# Altium schematic symbol library MCU.SchLib: 10 symbols
Pins are listed as number, name and electrical type; pins without a type are passive.

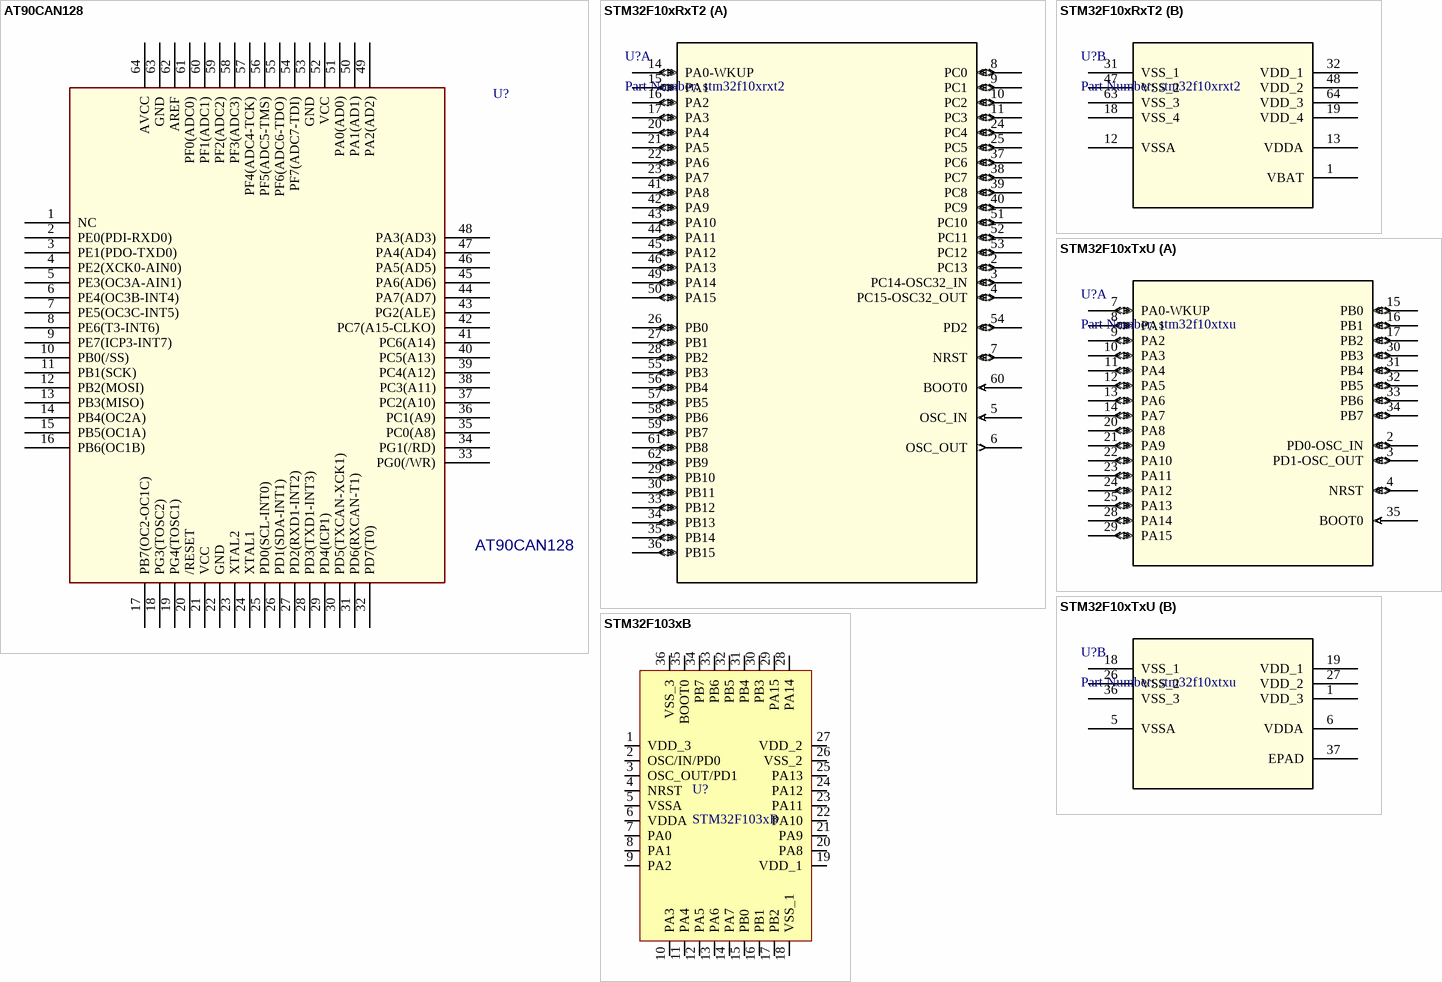
[diagram p0: symbols AT90CAN128 to STM32F103xB]

## AT90CAN128
designator U?
footprint 64A_L (64-Pin Thin Quad Flat Pack 0.8 mm Pitch, IPC High Density)
pins: 1 NC, 2 PE0(PDI-RXD0), 3 PE1(PDO-TXD0), 4 PE2(XCK0-AIN0), 5 PE3(OC3A-AIN1), 6 PE4(OC3B-INT4), 7 PE5(OC3C-INT5), 8 PE6(T3-INT6), 9 PE7(ICP3-INT7), 10 PB0(/SS), 11 PB1(SCK), 12 PB2(MOSI), 13 PB3(MISO), 14 PB4(OC2A), 15 PB5(OC1A), 16 PB6(OC1B), 17 PB7(OC2-OC1C), 18 PG3(TOSC2), 19 PG4(TOSC1), 20 /RESET, 21 VCC, 22 GND, 23 XTAL2, 24 XTAL1, 25 PD0(SCL-INT0), 26 PD1(SDA-INT1), 27 PD2(RXD1-INT2), 28 PD3(TXD1-INT3), 29 PD4(ICP1), 30 PD5(TXCAN-XCK1), 31 PD6(RXCAN-T1), 32 PD7(T0), 33 PG0(/WR), 34 PG1(/RD), 35 PC0(A8), 36 PC1(A9), 37 PC2(A10), 38 PC3(A11), 39 PC4(A12), 40 PC5(A13), 41 PC6(A14), 42 PC7(A15-CLKO), 43 PG2(ALE), 44 PA7(AD7), 45 PA6(AD6), 46 PA5(AD5), 47 PA4(AD4), 48 PA3(AD3), 49 PA2(AD2), 50 PA1(AD1), 51 PA0(AD0), 52 VCC, 53 GND, 54 PF7(ADC7-TDI), 55 PF6(ADC6-TDO), 56 PF5(ADC5-TMS), 57 PF4(ADC4-TCK), 58 PF3(ADC3), 59 PF2(ADC2), 60 PF1(ADC1), 61 PF0(ADC0), 62 AREF, 63 GND, 64 AVCC

## STM32F10xRxT2
designator U?, comment Part Number: stm32f10xrxt2
No Description Available; Vendor: STMicroelectronics; Manufacturer_Part_Number: stm32f10xrxt2; Copyright: Copyright (C) 2016 Accelerated Designs. All rights reserved; RefDes: RefDes; Type: DEV; Value: Value
footprint LQFP64-10x10mm (Pitch 0.50mm)
part A pins: 2 PC13 (io), 3 PC14-OSC32_IN (io), 4 PC15-OSC32_OUT (io), 5 OSC_IN (in), 6 OSC_OUT (out), 7 NRST (io), 8 PC0 (io), 9 PC1 (io), 10 PC2 (io), 11 PC3 (io), 14 PA0-WKUP (io), 15 PA1 (io), 16 PA2 (io), 17 PA3 (io), 20 PA4 (io), 21 PA5 (io), 22 PA6 (io), 23 PA7 (io), 24 PC4 (io), 25 PC5 (io), 26 PB0 (io), 27 PB1 (io), 28 PB2 (io), 29 PB10 (io), 30 PB11 (io), 33 PB12 (io), 34 PB13 (io), 35 PB14 (io), 36 PB15 (io), 37 PC6 (io), 38 PC7 (io), 39 PC8 (io), 40 PC9 (io), 41 PA8 (io), 42 PA9 (io), 43 PA10 (io), 44 PA11 (io), 45 PA12 (io), 46 PA13 (io), 49 PA14 (io), 50 PA15 (io), 51 PC10 (io), 52 PC11 (io), 53 PC12 (io), 54 PD2 (io), 55 PB3 (io), 56 PB4 (io), 57 PB5 (io), 58 PB6 (io), 59 PB7 (io), 60 BOOT0 (in), 61 PB8 (io), 62 PB9 (io)
part B pins: 1 VBAT (power), 12 VSSA (power), 13 VDDA (power), 18 VSS_4 (power), 19 VDD_4 (power), 31 VSS_1 (power), 32 VDD_1 (power), 47 VSS_2 (power), 48 VDD_2 (power), 63 VSS_3 (power), 64 VDD_3 (power)

## STM32F10xTxU
designator U?, comment Part Number: stm32f10xtxu
No Description Available; Vendor: STMicroelectronics; Manufacturer_Part_Number: stm32f10xtxu; Copyright: Copyright (C) 2016 Accelerated Designs. All rights reserved; RefDes: RefDes; Type: DEV; Value: Value
footprint QFN50P600X600X100_HS-37N - REV2 (QFN, 36-Leads, Body 6.00x6.00mm, Pitch 0.50mm, Thermal Pad 2.05x2.05mm, IPC Medium Density)
part A pins: 2 PD0-OSC_IN (io), 3 PD1-OSC_OUT (io), 4 NRST (io), 7 PA0-WKUP (io), 8 PA1 (io), 9 PA2 (io), 10 PA3 (io), 11 PA4 (io), 12 PA5 (io), 13 PA6 (io), 14 PA7 (io), 15 PB0 (io), 16 PB1 (io), 17 PB2 (io), 20 PA8 (io), 21 PA9 (io), 22 PA10 (io), 23 PA11 (io), 24 PA12 (io), 25 PA13 (io), 28 PA14 (io), 29 PA15 (io), 30 PB3 (io), 31 PB4 (io), 32 PB5 (io), 33 PB6 (io), 34 PB7 (io), 35 BOOT0 (in)
part B pins: 1 VDD_3 (power), 5 VSSA (power), 6 VDDA (power), 18 VSS_1 (power), 19 VDD_1 (power), 26 VSS_2 (power), 27 VDD_2 (power), 36 VSS_3 (power), 37 EPAD

## STM32F103xB
designator U?
footprint QFN50P600X600X100_HS-37N - REV1 (QFN, 36-Leads, Body 6.00x6.00mm, Pitch 0.50mm, Thermal Pad 2.05x2.05mm, IPC Medium Density)
pins: 1 VDD_3, 2 OSC/IN/PD0, 3 OSC_OUT/PD1, 4 NRST, 5 VSSA, 6 VDDA, 7 PA0, 8 PA1, 9 PA2, 10 PA3, 11 PA4, 12 PA5, 13 PA6, 14 PA7, 15 PB0, 16 PB1, 17 PB2, 18 VSS_1, 19 VDD_1, 20 PA8, 21 PA9, 22 PA10, 23 PA11, 24 PA12, 25 PA13, 26 VSS_2, 27 VDD_2, 28 PA14, 29 PA15, 30 PB3, 31 PB4, 32 PB5, 33 PB6, 34 PB7, 35 BOOT0, 36 VSS_3, 37 PAD hidden to GND

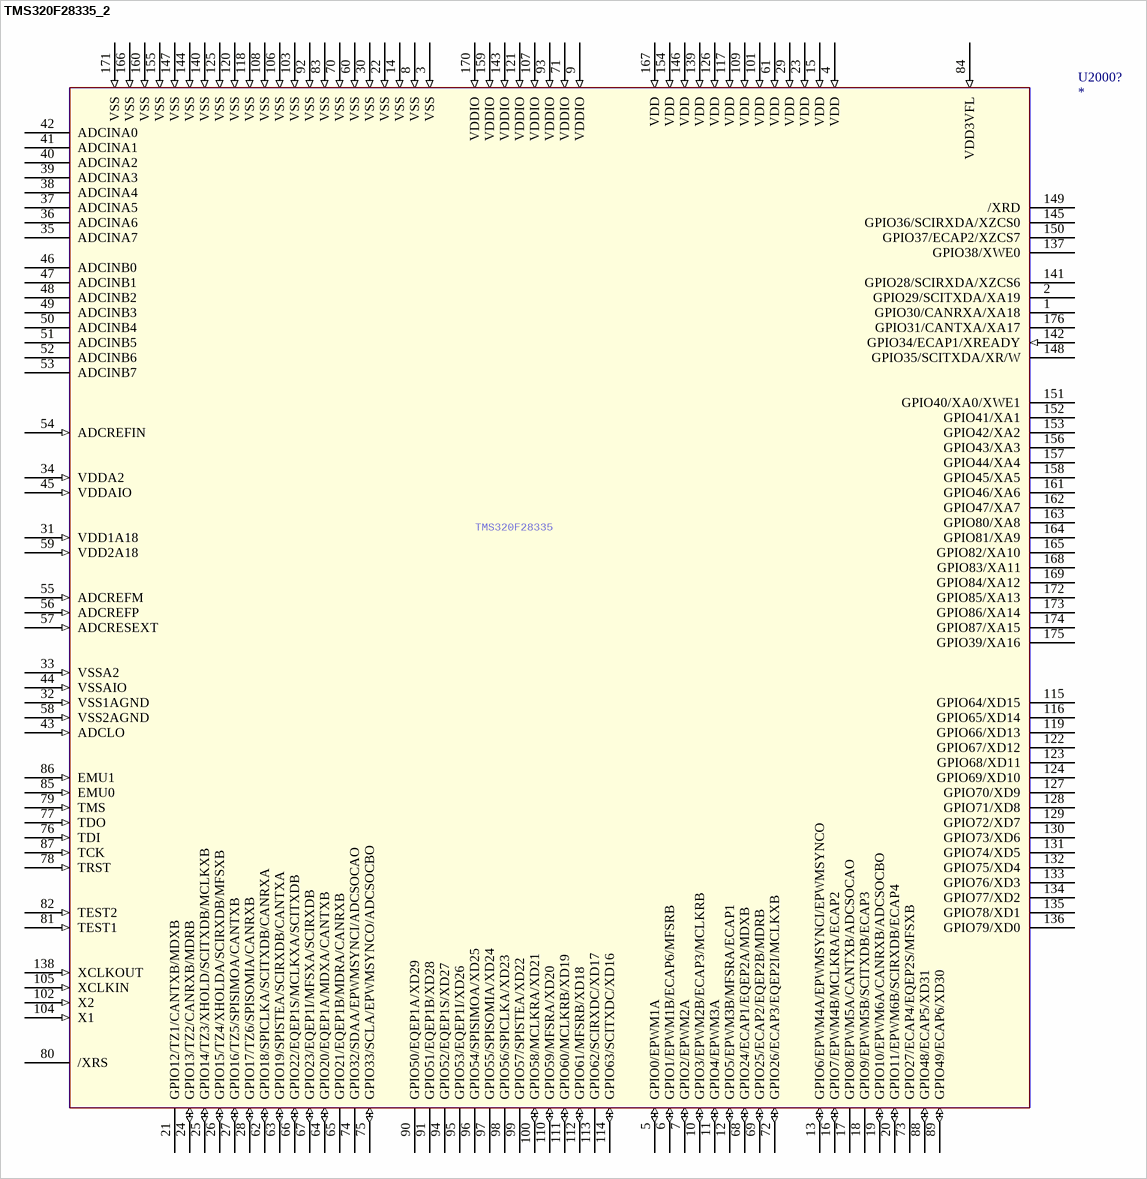
[diagram p1: symbol TMS320F28335_2]

## TMS320F28335_2
designator U2000?
OriginalSymbolOrigin: (0,0)
pins: 1 GPIO30/CANRXA/XA18, 2 GPIO29/SCITXDA/XA19, 3 VSS (in), 4 VDD (in), 5 GPIO0/EPWM1A (io), 6 GPIO1/EPWM1B/ECAP6/MFSRB (io), 7 GPIO2/EPWM2A (io), 8 VSS (in), 9 VDDIO (in), 10 GPIO3/EPWM2B/ECAP3/MCLKRB (io), 11 GPIO4/EPWM3A (io), 12 GPIO5/EPWM3B/MFSRA/ECAP1 (io), 13 GPIO6/EPWM4A/EPWMSYNCI/EPWMSYNCO (io), 14 VSS (in), 15 VDD (in), 16 GPIO7/EPWM4B/MCLKRA/ECAP2 (io), 17 GPIO8/EPWM5A/CANTXB/ADCSOCAO, 18 GPIO9/EPWM5B/SCITXDB/ECAP3, 19 GPIO10/EPWM6A/CANRXB/ADCSOCBO (io), 20 GPIO11/EPWM6B/SCIRXDB/ECAP4 (io), 21 GPIO12/TZ1/CANTXB/MDXB, 22 VSS (in), 23 VDD (in), 24 GPIO13/TZ2/CANRXB/MDRB (io), 25 GPIO14/TZ3/XHOLD/SCITXDB/MCLKXB (io), 26 GPIO15/TZ4/XHOLDA/SCIRXDB/MFSXB (io), 27 GPIO16/TZ5/SPISIMOA/CANTXB (io), 28 GPIO17/TZ6/SPISOMIA/CANRXB (io), 29 VDD (in), 30 VSS (in), 31 VDD1A18 (in), 32 VSS1AGND (in), 33 VSSA2 (in), 34 VDDA2 (in), 35 ADCINA7, 36 ADCINA6, 37 ADCINA5, 38 ADCINA4, 39 ADCINA3, 40 ADCINA2, 41 ADCINA1, 42 ADCINA0, 43 ADCLO (in), 44 VSSAIO (in), 45 VDDAIO (in), 46 ADCINB0, 47 ADCINB1, 48 ADCINB2, 49 ADCINB3, 50 ADCINB4, 51 ADCINB5, 52 ADCINB6, 53 ADCINB7, 54 ADCREFIN (in), 55 ADCREFM (in), 56 ADCREFP (in), 57 ADCRESEXT (in), 58 VSS2AGND (in), 59 VDD2A18 (in), 60 VSS (in), 61 VDD (in), 62 GPIO18/SPICLKA/SCITXDB/CANRXA (io), 63 GPIO19/SPISTEA/SCIRXDB/CANTXA (io), 64 GPIO20/EQEP1A/MDXA/CANTXB (io), 65 GPIO21/EQEP1B/MDRA/CANRXB, 66 GPIO22/EQEP1S/MCLKXA/SCITXDB (io), 67 GPIO23/EQEP1I/MFSXA/SCIRXDB (io), 68 GPIO24/ECAP1/EQEP2A/MDXB (io), 69 GPIO25/ECAP2/EQEP2B/MDRB (io), 70 VSS (in), 71 VDDIO (in), 72 GPIO26/ECAP3/EQEP2I/MCLKXB (io), 73 GPIO27/ECAP4/EQEP2S/MFSXB, 74 GPIO32/SDAA/EPWMSYNCI/ADCSOCAO, 75 GPIO33/SCLA/EPWMSYNCO/ADCSOCBO (io), 76 TDI (in), 77 TDO (in), 78 TRST (in), 79 TMS (in), 80 /XRS, 81 TEST1 (in), 82 TEST2 (in), 83 VSS (in), 84 VDD3VFL (in), 85 EMU0 (in), 86 EMU1 (in), 87 TCK (in), 88 GPIO48/ECAP5/XD31 (io), 89 GPIO49/ECAP6/XD30 (io), 90 GPIO50/EQEP1A/XD29, 91 GPIO51/EQEP1B/XD28, 92 VSS (in), 93 VDDIO (in), 94 GPIO52/EQEP1S/XD27, 95 GPIO53/EQEP1I/XD26, 96 GPIO54/SPISIMOA/XD25, 97 GPIO55/SPISOMIA/XD24, 98 GPIO56/SPICLKA/XD23, 99 GPIO57/SPISTEA/XD22, 100 GPIO58/MCLKRA/XD21 (io), 101 VDD (in), 102 X2 (in), 103 VSS (in), 104 X1 (in), 105 XCLKIN (in), 106 VSS (in), 107 VDDIO (in), 108 VSS (in), 109 VDD (in), 110 GPIO59/MFSRA/XD20 (io), 111 GPIO60/MCLKRB/XD19 (io), 112 GPIO61/MFSRB/XD18 (io), 113 GPIO62/SCIRXDC/XD17, 114 GPIO63/SCITXDC/XD16 (io), 115 GPIO64/XD15, 116 GPIO65/XD14, 117 VDD (in), 118 VSS (in), 119 GPIO66/XD13, 120 VSS (in), 121 VDDIO (in), 122 GPIO67/XD12, 123 GPIO68/XD11, 124 GPIO69/XD10, 125 VSS (in), 126 VDD (in), 127 GPIO70/XD9, 128 GPIO71/XD8, 129 GPIO72/XD7, 130 GPIO73/XD6, 131 GPIO74/XD5, 132 GPIO75/XD4, 133 GPIO76/XD3, 134 GPIO77/XD2, 135 GPIO78/XD1, 136 GPIO79/XD0, 137 GPIO38/XWE0, 138 XCLKOUT (in), 139 VDD (in), 140 VSS (in), 141 GPIO28/SCIRXDA/XZCS6, 142 GPIO34/ECAP1/XREADY (in), 143 VDDIO (in), 144 VSS (in), 145 GPIO36/SCIRXDA/XZCS0, 146 VDD (in), 147 VSS (in), 148 GPIO35/SCITXDA/XR/W, 149 /XRD, 150 GPIO37/ECAP2/XZCS7, 151 GPIO40/XA0/XWE1, 152 GPIO41/XA1, 153 GPIO42/XA2, 154 VDD (in), 155 VSS (in), 156 GPIO43/XA3, 157 GPIO44/XA4, 158 GPIO45/XA5, 159 VDDIO (in), 160 VSS (in), 161 GPIO46/XA6, 162 GPIO47/XA7, 163 GPIO80/XA8, 164 GPIO81/XA9, 165 GPIO82/XA10, 166 VSS (in), 167 VDD (in), 168 GPIO83/XA11, 169 GPIO84/XA12, 170 VDDIO (in), 171 VSS (in), 172 GPIO85/XA13, 173 GPIO86/XA14, 174 GPIO87/XA15, 175 GPIO39/XA16, 176 GPIO31/CANTXA/XA17
text: TMS320F28335

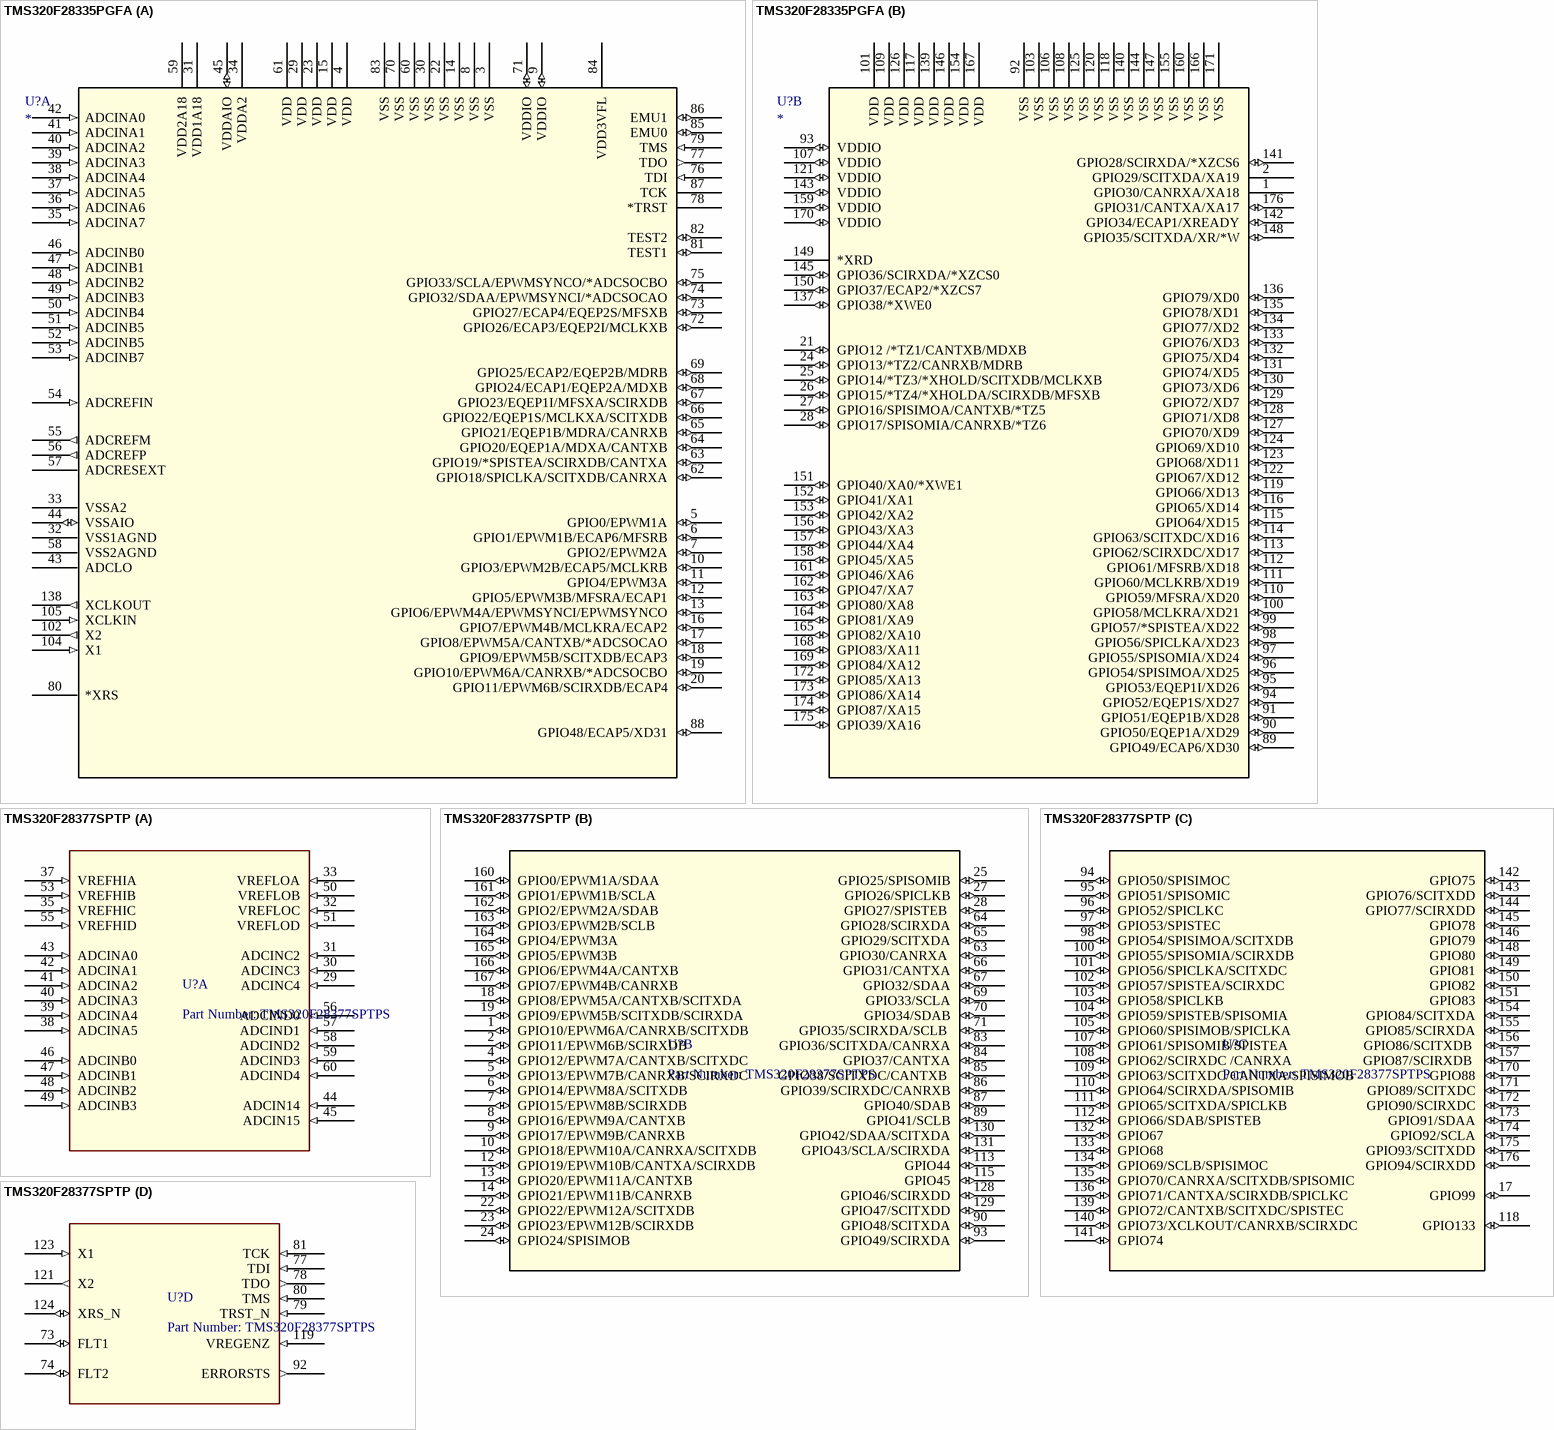
[diagram p2: symbols TMS320F28335PGFA to TMS320F28377SPTP]

## TMS320F28335PGFA
designator U?
Imported; Manufacturer_Part_Number: TMS320F28335PGFA; Vendor: Texas Instruments; Section: Microcontroller and Processor; C: Copyright (C) 2015 Accelerated Designs. All rights reserved; Family: Microcontroller; Manufacturer_Name: Texas Instruments; Copyright: Copyright (C) 2015 Accelerated Designs. All rights reserved; RS_Part_Number: 6606654; Value: Value; Type: Type; RefDes: RefDes
footprint PGF176
part A pins: 3 VSS (power), 4 VDD (power), 5 GPIO0/EPWM1A (io), 6 GPIO1/EPWM1B/ECAP6/MFSRB (io), 7 GPIO2/EPWM2A (io), 8 VSS (power), 9 VDDIO (io), 10 GPIO3/EPWM2B/ECAP5/MCLKRB (io), 11 GPIO4/EPWM3A (io), 12 GPIO5/EPWM3B/MFSRA/ECAP1 (io), 13 GPIO6/EPWM4A/EPWMSYNCI/EPWMSYNCO (io), 14 VSS (power), 15 VDD (power), 16 GPIO7/EPWM4B/MCLKRA/ECAP2 (io), 17 GPIO8/EPWM5A/CANTXB/*ADCSOCAO (io), 18 GPIO9/EPWM5B/SCITXDB/ECAP3 (io), 19 GPIO10/EPWM6A/CANRXB/*ADCSOCBO (io), 20 GPIO11/EPWM6B/SCIRXDB/ECAP4 (io), 22 VSS (power), 23 VDD (power), 29 VDD (power), 30 VSS (power), 31 VDD1A18 (power), 32 VSS1AGND (power), 33 VSSA2 (power), 34 VDDA2 (power), 35 ADCINA7 (in), 36 ADCINA6 (in), 37 ADCINA5 (in), 38 ADCINA4 (in), 39 ADCINA3 (in), 40 ADCINA2 (in), 41 ADCINA1 (in), 42 ADCINA0 (in), 43 ADCLO, 44 VSSAIO (io), 45 VDDAIO (io), 46 ADCINB0 (in), 47 ADCINB1 (in), 48 ADCINB2 (in), 49 ADCINB3 (in), 50 ADCINB4 (in), 51 ADCINB5 (in), 52 ADCINB5 (in), 53 ADCINB7 (in), 54 ADCREFIN (in), 55 ADCREFM (out), 56 ADCREFP (out), 57 ADCRESEXT, 58 VSS2AGND (power), 59 VDD2A18 (power), 60 VSS (power), 61 VDD (power), 62 GPIO18/SPICLKA/SCITXDB/CANRXA (io), 63 GPIO19/*SPISTEA/SCIRXDB/CANTXA (io), 64 GPIO20/EQEP1A/MDXA/CANTXB (io), 65 GPIO21/EQEP1B/MDRA/CANRXB (io), 66 GPIO22/EQEP1S/MCLKXA/SCITXDB (io), 67 GPIO23/EQEP1I/MFSXA/SCIRXDB (io), 68 GPIO24/ECAP1/EQEP2A/MDXB (io), 69 GPIO25/ECAP2/EQEP2B/MDRB (io), 70 VSS (power), 71 VDDIO (io), 72 GPIO26/ECAP3/EQEP2I/MCLKXB (io), 73 GPIO27/ECAP4/EQEP2S/MFSXB (io), 74 GPIO32/SDAA/EPWMSYNCI/*ADCSOCAO (io), 75 GPIO33/SCLA/EPWMSYNCO/*ADCSOCBO (io), 76 TDI (in), 77 TDO (out), 78 *TRST, 79 TMS (in), 80 *XRS, 81 TEST1 (io), 82 TEST2 (io), 83 VSS (power), 84 VDD3VFL (power), 85 EMU0 (io), 86 EMU1 (io), 87 TCK, 88 GPIO48/ECAP5/XD31 (io), 102 X2 (out), 104 X1 (in), 105 XCLKIN (in), 138 XCLKOUT (out)
part B pins: 1 GPIO30/CANRXA/XA18, 2 GPIO29/SCITXDA/XA19, 21 GPIO12 /*TZ1/CANTXB/MDXB (io), 24 GPIO13/*TZ2/CANRXB/MDRB (io), 25 GPIO14/*TZ3/*XHOLD/SCITXDB/MCLKXB (io), 26 GPIO15/*TZ4/*XHOLDA/SCIRXDB/MFSXB (io), 27 GPIO16/SPISIMOA/CANTXB/*TZ5 (io), 28 GPIO17/SPISOMIA/CANRXB/*TZ6 (io), 89 GPIO49/ECAP6/XD30 (io), 90 GPIO50/EQEP1A/XD29 (io), 91 GPIO51/EQEP1B/XD28 (io), 92 VSS (power), 93 VDDIO (io), 94 GPIO52/EQEP1S/XD27 (io), 95 GPIO53/EQEP1I/XD26 (io), 96 GPIO54/SPISIMOA/XD25 (io), 97 GPIO55/SPISOMIA/XD24 (io), 98 GPIO56/SPICLKA/XD23 (io), 99 GPIO57/*SPISTEA/XD22 (io), 100 GPIO58/MCLKRA/XD21 (io), 101 VDD (power), 103 VSS (power), 106 VSS (power), 107 VDDIO (io), 108 VSS (power), 109 VDD (power), 110 GPIO59/MFSRA/XD20 (io), 111 GPIO60/MCLKRB/XD19 (io), 112 GPIO61/MFSRB/XD18 (io), 113 GPIO62/SCIRXDC/XD17 (io), 114 GPIO63/SCITXDC/XD16 (io), 115 GPIO64/XD15 (io), 116 GPIO65/XD14 (io), 117 VDD (power), 118 VSS (power), 119 GPIO66/XD13 (io), 120 VSS (power), 121 VDDIO (io), 122 GPIO67/XD12 (io), 123 GPIO68/XD11 (io), 124 GPIO69/XD10 (io), 125 VSS (power), 126 VDD (power), 127 GPIO70/XD9 (io), 128 GPIO71/XD8 (io), 129 GPIO72/XD7 (io), 130 GPIO73/XD6 (io), 131 GPIO74/XD5 (io), 132 GPIO75/XD4 (io), 133 GPIO76/XD3 (io), 134 GPIO77/XD2 (io), 135 GPIO78/XD1 (io), 136 GPIO79/XD0 (io), 137 GPIO38/*XWE0 (io), 139 VDD (power), 140 VSS (power), 141 GPIO28/SCIRXDA/*XZCS6 (io), 142 GPIO34/ECAP1/XREADY (io), 143 VDDIO (io), 144 VSS (power), 145 GPIO36/SCIRXDA/*XZCS0 (io), 146 VDD (power), 147 VSS (power), 148 GPIO35/SCITXDA/XR/*W (io), 149 *XRD, 150 GPIO37/ECAP2/*XZCS7 (io), 151 GPIO40/XA0/*XWE1 (io), 152 GPIO41/XA1 (io), 153 GPIO42/XA2 (io), 154 VDD (power), 155 VSS (power), 156 GPIO43/XA3 (io), 157 GPIO44/XA4 (io), 158 GPIO45/XA5 (io), 159 VDDIO (io), 160 VSS (power), 161 GPIO46/XA6 (io), 162 GPIO47/XA7 (io), 163 GPIO80/XA8 (io), 164 GPIO81/XA9 (io), 165 GPIO82/XA10 (io), 166 VSS (power), 167 VDD (power), 168 GPIO83/XA11 (io), 169 GPIO84/XA12 (io), 170 VDDIO (io), 171 VSS (power), 172 GPIO85/XA13 (io), 173 GPIO86/XA14 (io), 174 GPIO87/XA15 (io), 175 GPIO39/XA16 (io), 176 GPIO31/CANTXA/XA17 (io)

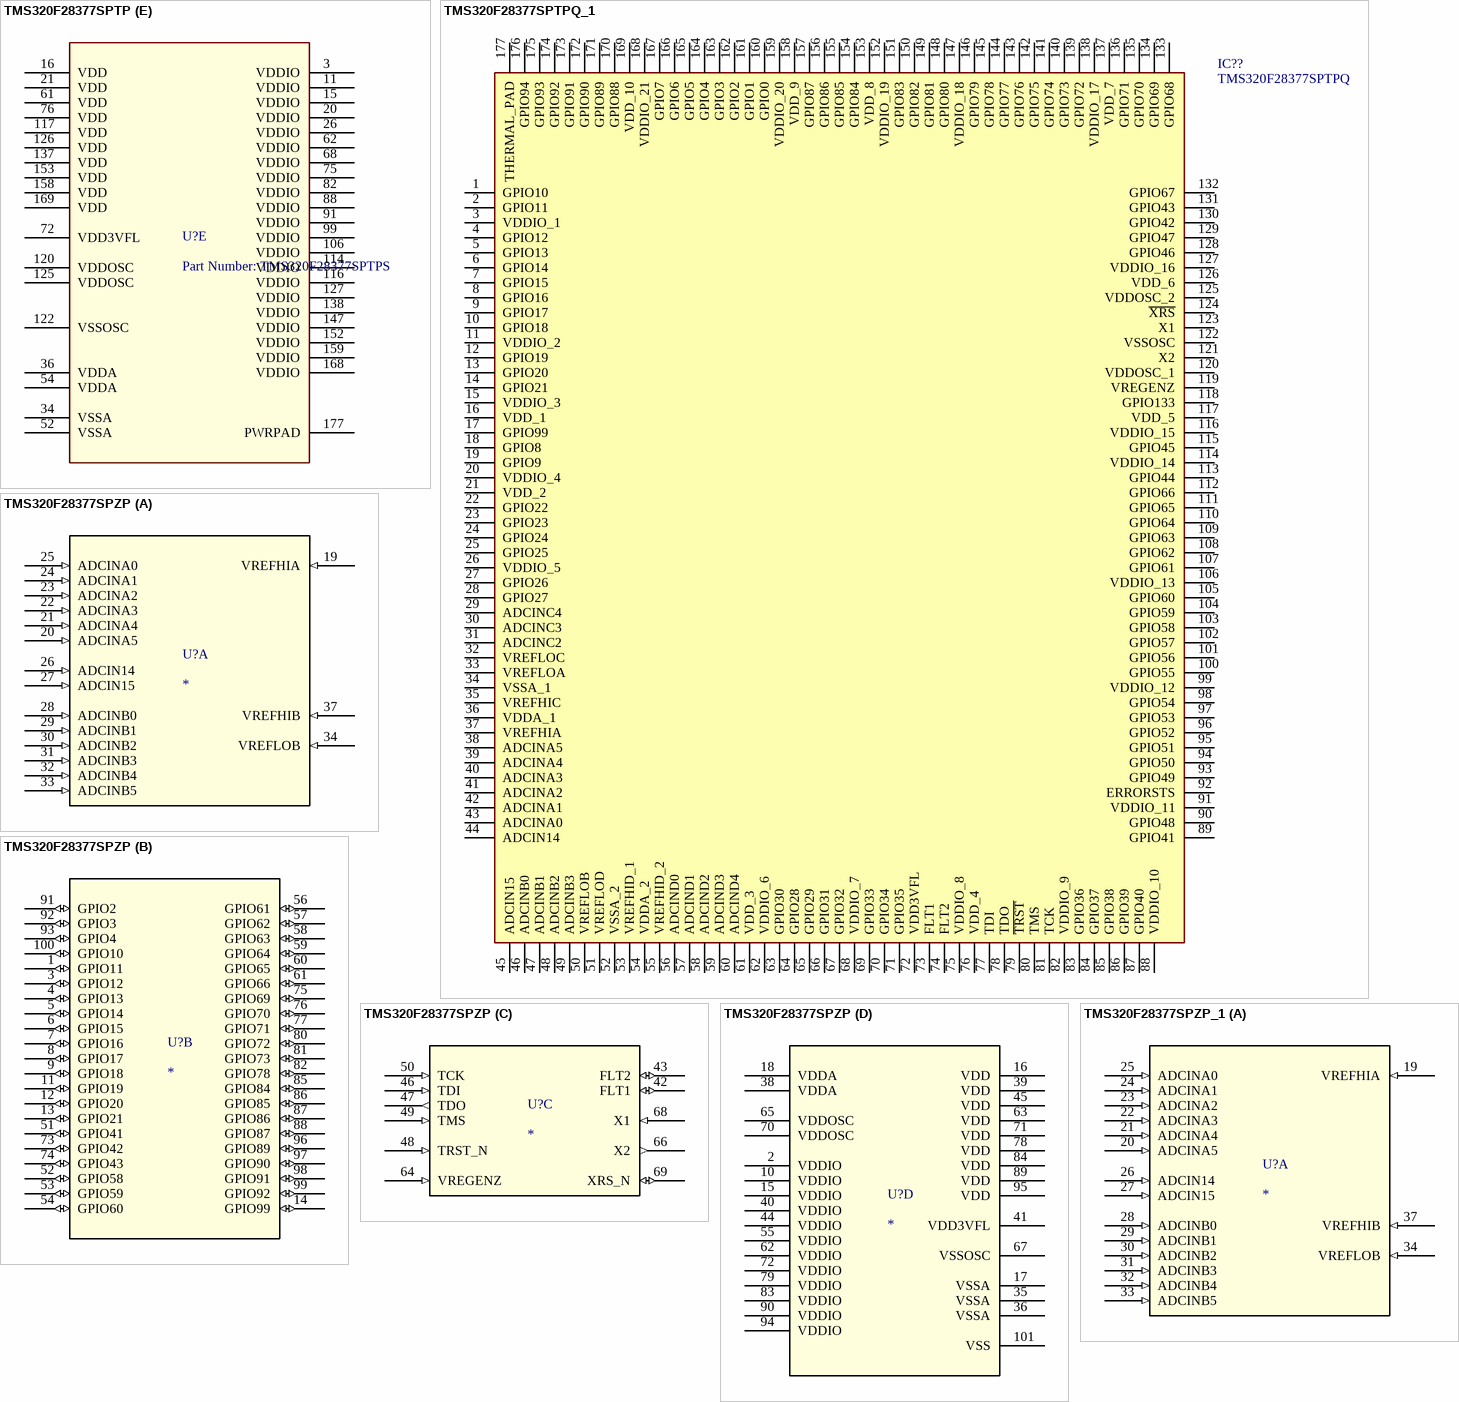
[diagram p3: symbols TMS320F28377SPTP to TMS320F28377SPZP_1]

## TMS320F28377SPTP
designator U?, comment Part Number: TMS320F28377SPTPS
TMS320F2837xS Delfino™ Microcontrollers; Vendor: Texas Instruments; Built_By: Texas_Instrument_Team; Manufacturer_Part_Number: TMS320F28377SPTPS; Copyright: Copyright (C) 2018 Accelerated Designs. All rights reserved; RefDes: RefDes; Type: DEV; Value: Value
footprint PTP0176F_N
part A pins: 29 ADCINC4 (in), 30 ADCINC3 (in), 31 ADCINC2 (in), 32 VREFLOC (in), 33 VREFLOA (in), 35 VREFHIC (in), 37 VREFHIA (in), 38 ADCINA5 (in), 39 ADCINA4 (in), 40 ADCINA3 (in), 41 ADCINA2 (in), 42 ADCINA1 (in), 43 ADCINA0 (in), 44 ADCIN14 (in), 45 ADCIN15 (in), 46 ADCINB0 (in), 47 ADCINB1 (in), 48 ADCINB2 (in), 49 ADCINB3 (in), 50 VREFLOB (in), 51 VREFLOD (in), 53 VREFHIB (in), 55 VREFHID (in), 56 ADCIND0 (in), 57 ADCIND1 (in), 58 ADCIND2 (in), 59 ADCIND3 (in), 60 ADCIND4 (in)
part B pins: 1 GPIO10/EPWM6A/CANRXB/SCITXDB (io), 2 GPIO11/EPWM6B/SCIRXDB  (io), 4 GPIO12/EPWM7A/CANTXB/SCITXDC  (io), 5 GPIO13/EPWM7B/CANRXB/SCIRXDC (io), 6 GPIO14/EPWM8A/SCITXDB  (io), 7 GPIO15/EPWM8B/SCIRXDB (io), 8 GPIO16/EPWM9A/CANTXB (io), 9 GPIO17/EPWM9B/CANRXB (io), 10 GPIO18/EPWM10A/CANRXA/SCITXDB (io), 12 GPIO19/EPWM10B/CANTXA/SCIRXDB (io), 13 GPIO20/EPWM11A/CANTXB  (io), 14 GPIO21/EPWM11B/CANRXB (io), 18 GPIO8/EPWM5A/CANTXB/SCITXDA (io), 19 GPIO9/EPWM5B/SCITXDB/SCIRXDA  (io), 22 GPIO22/EPWM12A/SCITXDB (io), 23 GPIO23/EPWM12B/SCIRXDB  (io), 24 GPIO24/SPISIMOB  (io), 25 GPIO25/SPISOMIB (io), 27 GPIO26/SPICLKB (io), 28 GPIO27/SPISTEB  (io), 63 GPIO30/CANRXA  (io), 64 GPIO28/SCIRXDA (io), 65 GPIO29/SCITXDA (io), 66 GPIO31/CANTXA (io), 67 GPIO32/SDAA (io), 69 GPIO33/SCLA (io), 70 GPIO34/SDAB (io), 71 GPIO35/SCIRXDA/SCLB  (io), 83 GPIO36/SCITXDA/CANRXA (io), 84 GPIO37/CANTXA (io), 85 GPIO38/SCITXDC/CANTXB  (io), 86 GPIO39/SCIRXDC/CANRXB (io), 87 GPIO40/SDAB (io), 89 GPIO41/SCLB (io), 90 GPIO48/SCITXDA (io), 93 GPIO49/SCIRXDA (io), 113 GPIO44 (io), 115 GPIO45 (io), 128 GPIO46/SCIRXDD (io), 129 GPIO47/SCITXDD (io), 130 GPIO42/SDAA/SCITXDA (io), 131 GPIO43/SCLA/SCIRXDA (io), 160 GPIO0/EPWM1A/SDAA (io), 161 GPIO1/EPWM1B/SCLA (io), 162 GPIO2/EPWM2A/SDAB (io), 163 GPIO3/EPWM2B/SCLB (io), 164 GPIO4/EPWM3A (io), 165 GPIO5/EPWM3B  (io), 166 GPIO6/EPWM4A/CANTXB (io), 167 GPIO7/EPWM4B/CANRXB (io)
part C pins: 17 GPIO99 (io), 94 GPIO50/SPISIMOC (io), 95 GPIO51/SPISOMIC (io), 96 GPIO52/SPICLKC  (io), 97 GPIO53/SPISTEC (io), 98 GPIO54/SPISIMOA/SCITXDB (io), 100 GPIO55/SPISOMIA/SCIRXDB (io), 101 GPIO56/SPICLKA/SCITXDC  (io), 102 GPIO57/SPISTEA/SCIRXDC (io), 103 GPIO58/SPICLKB  (io), 104 GPIO59/SPISTEB/SPISOMIA  (io), 105 GPIO60/SPISIMOB/SPICLKA (io), 107 GPIO61/SPISOMIB/SPISTEA (io), 108 GPIO62/SCIRXDC /CANRXA (io), 109 GPIO63/SCITXDC/CANTXA/SPISIMOB (io), 110 GPIO64/SCIRXDA/SPISOMIB (io), 111 GPIO65/SCITXDA/SPICLKB (io), 112 GPIO66/SDAB/SPISTEB  (io), 118 GPIO133 (io), 132 GPIO67 (io), 133 GPIO68 (io), 134 GPIO69/SCLB/SPISIMOC  (io), 135 GPIO70/CANRXA/SCITXDB/SPISOMIC (io), 136 GPIO71/CANTXA/SCIRXDB/SPICLKC (io), 139 GPIO72/CANTXB/SCITXDC/SPISTEC  (io), 140 GPIO73/XCLKOUT/CANRXB/SCIRXDC (io), 141 GPIO74 (io), 142 GPIO75 (io), 143 GPIO76/SCITXDD (io), 144 GPIO77/SCIRXDD (io), 145 GPIO78 (io), 146 GPIO79 (io), 148 GPIO80 (io), 149 GPIO81 (io), 150 GPIO82 (io), 151 GPIO83 (io), 154 GPIO84/SCITXDA (io), 155 GPIO85/SCIRXDA (io), 156 GPIO86/SCITXDB  (io), 157 GPIO87/SCIRXDB  (io), 170 GPIO88 (io), 171 GPIO89/SCITXDC (io), 172 GPIO90/SCIRXDC (io), 173 GPIO91/SDAA (io), 174 GPIO92/SCLA (io), 175 GPIO93/SCITXDD (io), 176 GPIO94/SCIRXDD (io)
part D pins: 73 FLT1 (io), 74 FLT2 (io), 77 TDI (in), 78 TDO (out), 79 TRST_N (in), 80 TMS (in), 81 TCK (in), 92 ERRORSTS (out), 119 VREGENZ (in), 121 X2 (out), 123 X1 (in), 124 XRS_N (io)
part E pins: 3 VDDIO (power), 11 VDDIO (power), 15 VDDIO (power), 16 VDD (power), 20 VDDIO (power), 21 VDD (power), 26 VDDIO (power), 34 VSSA (power), 36 VDDA (power), 52 VSSA (power), 54 VDDA (power), 61 VDD (power), 62 VDDIO (power), 68 VDDIO (power), 72 VDD3VFL (power), 75 VDDIO (power), 76 VDD (power), 82 VDDIO (power), 88 VDDIO (power), 91 VDDIO (power), 99 VDDIO (power), 106 VDDIO (power), 114 VDDIO (power), 116 VDDIO (power), 117 VDD (power), 120 VDDOSC (power), 122 VSSOSC (power), 125 VDDOSC (power), 126 VDD (power), 127 VDDIO (power), 137 VDD (power), 138 VDDIO (power), 147 VDDIO (power), 152 VDDIO (power), 153 VDD (power), 158 VDD (power), 159 VDDIO (power), 168 VDDIO (power), 169 VDD (power), 177 PWRPAD (power)

## TMS320F28377SPTPQ_1
designator IC??, comment TMS320F28377SPTPQ
Integrated Circuit; Manufacturer_Name: Texas Instruments; Datasheet Link: http://www.tij.co.jp/jp/lit/ds/symlink/tms320f28377s.pdf; Height: 1.45mm; Mouser2 Part Number: 595-320F28377SPTPQ; Mouser2 Price/Stock: https://www.mouser.com/Search/Refine.aspx?Keyword=595-320F28377SPTPQ; Manufacturer_Part_Number: TMS320F28377SPTPQ
pins: 1 GPIO10, 2 GPIO11, 3 VDDIO_1, 4 GPIO12, 5 GPIO13, 6 GPIO14, 7 GPIO15, 8 GPIO16, 9 GPIO17, 10 GPIO18, 11 VDDIO_2, 12 GPIO19, 13 GPIO20, 14 GPIO21, 15 VDDIO_3, 16 VDD_1, 17 GPIO99, 18 GPIO8, 19 GPIO9, 20 VDDIO_4, 21 VDD_2, 22 GPIO22, 23 GPIO23, 24 GPIO24, 25 GPIO25, 26 VDDIO_5, 27 GPIO26, 28 GPIO27, 29 ADCINC4, 30 ADCINC3, 31 ADCINC2, 32 VREFLOC, 33 VREFLOA, 34 VSSA_1, 35 VREFHIC, 36 VDDA_1, 37 VREFHIA, 38 ADCINA5, 39 ADCINA4, 40 ADCINA3, 41 ADCINA2, 42 ADCINA1, 43 ADCINA0, 44 ADCIN14, 45 ADCIN15, 46 ADCINB0, 47 ADCINB1, 48 ADCINB2, 49 ADCINB3, 50 VREFLOB, 51 VREFLOD, 52 VSSA_2, 53 VREFHID_1, 54 VDDA_2, 55 VREFHID_2, 56 ADCIND0, 57 ADCIND1, 58 ADCIND2, 59 ADCIND3, 60 ADCIND4, 61 VDD_3, 62 VDDIO_6, 63 GPIO30, 64 GPIO28, 65 GPIO29, 66 GPIO31, 67 GPIO32, 68 VDDIO_7, 69 GPIO33, 70 GPIO34, 71 GPIO35, 72 VDD3VFL, 73 FLT1, 74 FLT2, 75 VDDIO_8, 76 VDD_4, 77 TDI, 78 TDO, 79 ~{TRST}, 80 TMS, 81 TCK, 82 VDDIO_9, 83 GPIO36, 84 GPIO37, 85 GPIO38, 86 GPIO39, 87 GPIO40, 88 VDDIO_10, 89 GPIO41, 90 GPIO48, 91 VDDIO_11, 92 ERRORSTS, 93 GPIO49, 94 GPIO50, 95 GPIO51, 96 GPIO52, 97 GPIO53, 98 GPIO54, 99 VDDIO_12, 100 GPIO55, 101 GPIO56, 102 GPIO57, 103 GPIO58, 104 GPIO59, 105 GPIO60, 106 VDDIO_13, 107 GPIO61, 108 GPIO62, 109 GPIO63, 110 GPIO64, 111 GPIO65, 112 GPIO66, 113 GPIO44, 114 VDDIO_14, 115 GPIO45, 116 VDDIO_15, 117 VDD_5, 118 GPIO133, 119 VREGENZ, 120 VDDOSC_1, 121 X2, 122 VSSOSC, 123 X1, 124 ~{XRS}, 125 VDDOSC_2, 126 VDD_6, 127 VDDIO_16, 128 GPIO46, 129 GPIO47, 130 GPIO42, 131 GPIO43, 132 GPIO67, 133 GPIO68, 134 GPIO69, 135 GPIO70, 136 GPIO71, 137 VDD_7, 138 VDDIO_17, 139 GPIO72, 140 GPIO73, 141 GPIO74, 142 GPIO75, 143 GPIO76, 144 GPIO77, 145 GPIO78, 146 GPIO79, 147 VDDIO_18, 148 GPIO80, 149 GPIO81, 150 GPIO82, 151 GPIO83, 152 VDDIO_19, 153 VDD_8, 154 GPIO84, 155 GPIO85, 156 GPIO86, 157 GPIO87, 158 VDD_9, 159 VDDIO_20, 160 GPIO0, 161 GPIO1, 162 GPIO2, 163 GPIO3, 164 GPIO4, 165 GPIO5, 166 GPIO6, 167 GPIO7, 168 VDDIO_21, 169 VDD_10, 170 GPIO88, 171 GPIO89, 172 GPIO90, 173 GPIO91, 174 GPIO92, 175 GPIO93, 176 GPIO94, 177 THERMAL_PAD

## TMS320F28377SPZP
designator U?
Imported; PartNumber: TMS320F28377SPZPQ; Alternate_PartNumber: TMS320F28377SPZPT; Manufacturer: Texas Instruments; CompType: IC; PIN_COUNT: 101; Application_BuildNumber: *; PackageReference: PZP0100N; MountType: SMT; RoHS: Y; RefDes: RefDes; TYPE: TYPE; Value: Value
footprint TSQFP50P1540X1540X120_HS-101N (TSQFP, 100-Leads, Body 14.00x14.00mm, Pitch 0.50mm, Thermal Pad 8.64x8.64mm, IPC Medium Density)
part A pins: 19 VREFHIA (in), 20 ADCINA5 (in), 21 ADCINA4 (in), 22 ADCINA3 (in), 23 ADCINA2 (in), 24 ADCINA1 (in), 25 ADCINA0 (in), 26 ADCIN14 (in), 27 ADCIN15 (in), 28 ADCINB0 (in), 29 ADCINB1 (in), 30 ADCINB2 (in), 31 ADCINB3 (in), 32 ADCINB4 (in), 33 ADCINB5 (in), 34 VREFLOB (in), 37 VREFHIB (in)
part B pins: 1 GPIO11 (io), 3 GPIO12 (io), 4 GPIO13 (io), 5 GPIO14 (io), 6 GPIO15 (io), 7 GPIO16 (io), 8 GPIO17 (io), 9 GPIO18 (io), 11 GPIO19 (io), 12 GPIO20 (io), 13 GPIO21 (io), 14 GPIO99 (io), 51 GPIO41 (io), 52 GPIO58 (io), 53 GPIO59 (io), 54 GPIO60 (io), 56 GPIO61 (io), 57 GPIO62 (io), 58 GPIO63 (io), 59 GPIO64 (io), 60 GPIO65 (io), 61 GPIO66 (io), 73 GPIO42 (io), 74 GPIO43 (io), 75 GPIO69 (io), 76 GPIO70 (io), 77 GPIO71 (io), 80 GPIO72 (io), 81 GPIO73 (io), 82 GPIO78 (io), 85 GPIO84 (io), 86 GPIO85 (io), 87 GPIO86 (io), 88 GPIO87 (io), 91 GPIO2 (io), 92 GPIO3 (io), 93 GPIO4 (io), 96 GPIO89 (io), 97 GPIO90 (io), 98 GPIO91 (io), 99 GPIO92 (io), 100 GPIO10 (io)
part C pins: 42 FLT1 (io), 43 FLT2 (io), 46 TDI (in), 47 TDO (out), 48 TRST_N (in), 49 TMS (in), 50 TCK (in), 64 VREGENZ (in), 66 X2 (out), 68 X1 (in), 69 XRS_N (io)
part D pins: 2 VDDIO (power), 10 VDDIO (power), 15 VDDIO (power), 16 VDD (power), 17 VSSA (power), 18 VDDA (power), 35 VSSA (power), 36 VSSA (power), 38 VDDA (power), 39 VDD (power), 40 VDDIO (power), 41 VDD3VFL (power), 44 VDDIO (power), 45 VDD (power), 55 VDDIO (power), 62 VDDIO (power), 63 VDD (power), 65 VDDOSC (power), 67 VSSOSC (power), 70 VDDOSC (power), 71 VDD (power), 72 VDDIO (power), 78 VDD (power), 79 VDDIO (power), 83 VDDIO (power), 84 VDD (power), 89 VDD (power), 90 VDDIO (power), 94 VDDIO (power), 95 VDD (power), 101 VSS (power)

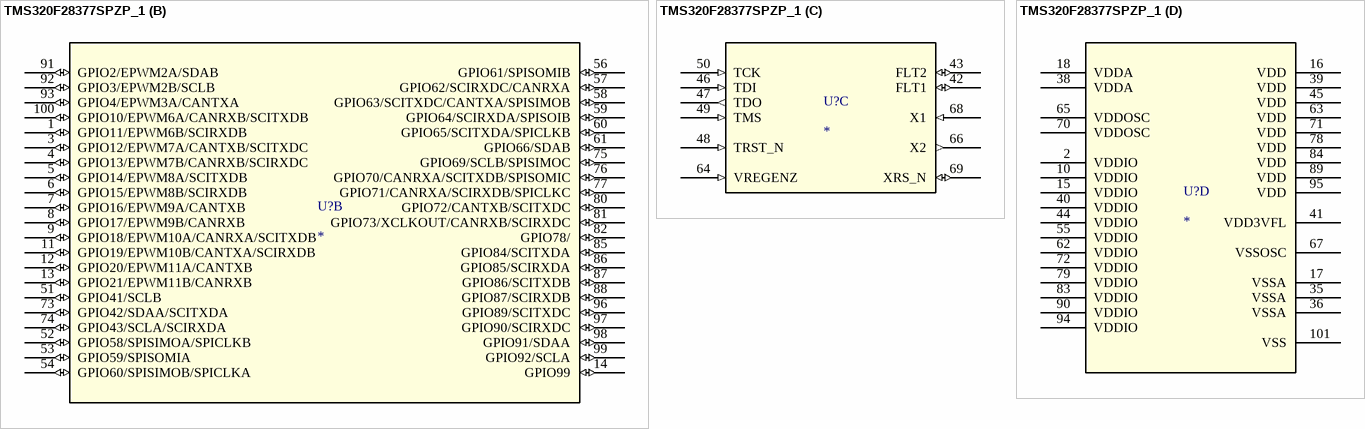
[diagram p4: symbol TMS320F28377SPZP_1]

## TMS320F28377SPZP_1
designator U?
TMS320F2837xS Delfino™ Microcontrollers; PartNumber: TMS320F28377SPZPQ; Alternate_PartNumber: TMS320F28377SPZPT; Manufacturer: Texas Instruments; CompType: IC; PIN_COUNT: 101; Application_BuildNumber: *; PackageReference: PZP0100N; MountType: SMT; RoHS: Y; RefDes: RefDes; TYPE: TYPE; Value: Value
footprint TSQFP50P1540X1540X120_HS-101N (TSQFP, 100-Leads, Body 14.00x14.00mm, Pitch 0.50mm, Thermal Pad 8.64x8.64mm, IPC Medium Density)
part A pins: 19 VREFHIA (in), 20 ADCINA5 (in), 21 ADCINA4 (in), 22 ADCINA3 (in), 23 ADCINA2 (in), 24 ADCINA1 (in), 25 ADCINA0 (in), 26 ADCIN14 (in), 27 ADCIN15 (in), 28 ADCINB0 (in), 29 ADCINB1 (in), 30 ADCINB2 (in), 31 ADCINB3 (in), 32 ADCINB4 (in), 33 ADCINB5 (in), 34 VREFLOB (in), 37 VREFHIB (in)
part B pins: 1 GPIO11/EPWM6B/SCIRXDB (io), 3 GPIO12/EPWM7A/CANTXB/SCITXDC (io), 4 GPIO13/EPWM7B/CANRXB/SCIRXDC (io), 5 GPIO14/EPWM8A/SCITXDB (io), 6 GPIO15/EPWM8B/SCIRXDB (io), 7 GPIO16/EPWM9A/CANTXB (io), 8 GPIO17/EPWM9B/CANRXB (io), 9 GPIO18/EPWM10A/CANRXA/SCITXDB (io), 11 GPIO19/EPWM10B/CANTXA/SCIRXDB (io), 12 GPIO20/EPWM11A/CANTXB (io), 13 GPIO21/EPWM11B/CANRXB (io), 14 GPIO99 (io), 51 GPIO41/SCLB (io), 52 GPIO58/SPISIMOA/SPICLKB (io), 53 GPIO59/SPISOMIA (io), 54 GPIO60/SPISIMOB/SPICLKA (io), 56 GPIO61/SPISOMIB (io), 57 GPIO62/SCIRXDC/CANRXA (io), 58 GPIO63/SCITXDC/CANTXA/SPISIMOB (io), 59 GPIO64/SCIRXDA/SPISOIB (io), 60 GPIO65/SCITXDA/SPICLKB (io), 61 GPIO66/SDAB (io), 73 GPIO42/SDAA/SCITXDA (io), 74 GPIO43/SCLA/SCIRXDA (io), 75 GPIO69/SCLB/SPISIMOC (io), 76 GPIO70/CANRXA/SCITXDB/SPISOMIC (io), 77 GPIO71/CANRXA/SCIRXDB/SPICLKC (io), 80 GPIO72/CANTXB/SCITXDC (io), 81 GPIO73/XCLKOUT/CANRXB/SCIRXDC (io), 82 GPIO78/ (io), 85 GPIO84/SCITXDA (io), 86 GPIO85/SCIRXDA (io), 87 GPIO86/SCITXDB (io), 88 GPIO87/SCIRXDB (io), 91 GPIO2/EPWM2A/SDAB (io), 92 GPIO3/EPWM2B/SCLB (io), 93 GPIO4/EPWM3A/CANTXA (io), 96 GPIO89/SCITXDC (io), 97 GPIO90/SCIRXDC (io), 98 GPIO91/SDAA (io), 99 GPIO92/SCLA (io), 100 GPIO10/EPWM6A/CANRXB/SCITXDB (io)
part C pins: 42 FLT1 (io), 43 FLT2 (io), 46 TDI (in), 47 TDO (out), 48 TRST_N (in), 49 TMS (in), 50 TCK (in), 64 VREGENZ (in), 66 X2 (out), 68 X1 (in), 69 XRS_N (io)
part D pins: 2 VDDIO (power), 10 VDDIO (power), 15 VDDIO (power), 16 VDD (power), 17 VSSA (power), 18 VDDA (power), 35 VSSA (power), 36 VSSA (power), 38 VDDA (power), 39 VDD (power), 40 VDDIO (power), 41 VDD3VFL (power), 44 VDDIO (power), 45 VDD (power), 55 VDDIO (power), 62 VDDIO (power), 63 VDD (power), 65 VDDOSC (power), 67 VSSOSC (power), 70 VDDOSC (power), 71 VDD (power), 72 VDDIO (power), 78 VDD (power), 79 VDDIO (power), 83 VDDIO (power), 84 VDD (power), 89 VDD (power), 90 VDDIO (power), 94 VDDIO (power), 95 VDD (power), 101 VSS (power)